# Altium footprint library CHRY_MXXX-XXXW_MA.PcbLib: 1 footprints
Each footprint in its own frame and in the unit in brackets; x right, y up, seen from the top. Pads: shape width x height; smd on the part's side, far side on the other; paste and mask are expansions set on the pad; w line width, h text height; cw(c..) or ccw(c..) is an arc to the next point about the centre after c.
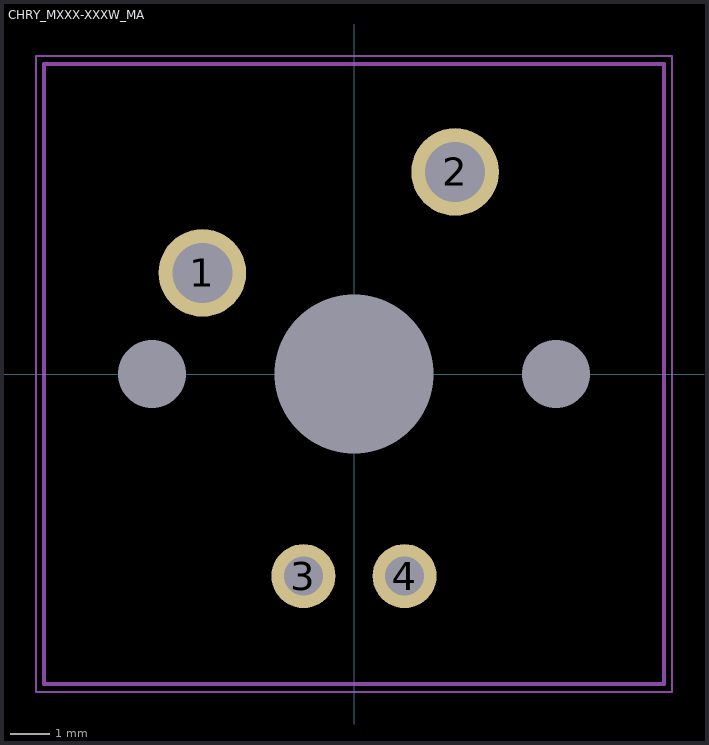
[diagram p0: the footprint, top view; thin cyan lines are the x and y axes]

## CHRY_MXXX-XXXW_MA [mm]
pads (7):
  round 0 hole 1.702 unplated: 0(-5.08,0) 0(5.08,0)
  round 0 hole 3.988 unplated: 0(0,0)
  round 2.2 hole 1.499: 1(-3.81,2.54) 2(2.54,5.08)
  round 1.61 hole 0.991: 3(-1.27,-5.08) 4(1.27,-5.08)
Top Assembly (Mech13):
  lines w0.1: -7.8,-7.8 -7.8,7.8 7.8,7.8 7.8,-7.8 -7.8,-7.8
Top Courtyard:
  lines w0.05: -0.5,0 0.5,0 ; 0,-0.5 0,0.5 ; -8,-8 8,-8 8,8 -8,8 -8,-8
3D body "MX .STEP": height 15.51, standoff -3.39, extent -7.8,-7.8 7.8,7.8